# Altium footprint library MergenElektronik_Sensors_AltimeterSensors.PcbLib: 1 footprints
Each footprint in its own frame and in the unit in brackets; x right, y up, seen from the top. Pads: shape width x height; smd on the part's side, far side on the other; paste and mask are expansions set on the pad; w line width, h text height; cw(c..) or ccw(c..) is an arc to the next point about the centre after c.
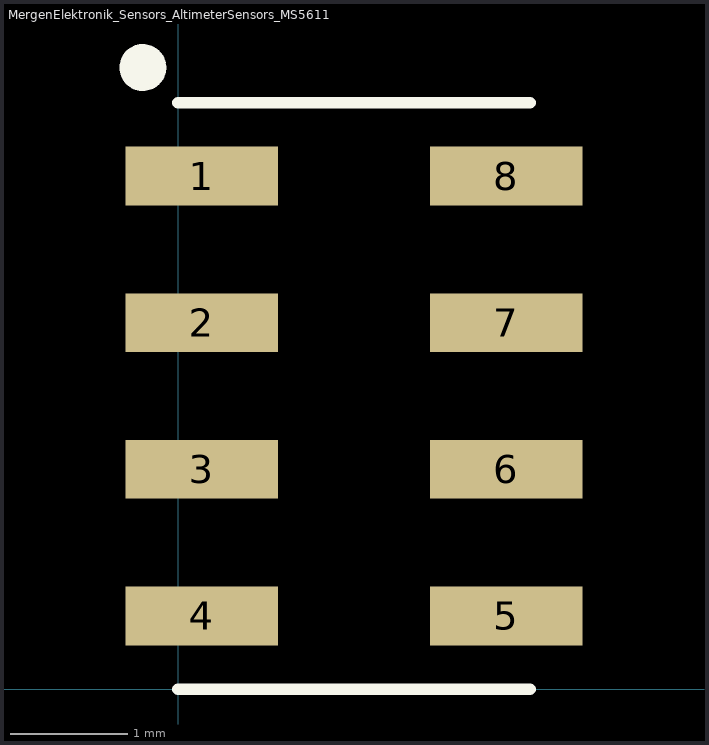
[diagram p0: the footprint, top view; thin cyan lines are the x and y axes]

## MergenElektronik_Sensors_AltimeterSensors_MS561101BA03-50 [mm] "MS561101BA03-50"
pads (8):
  rect 1.3x0.5 smd: 1(0.2,4.375) 2(0.2,3.125) 3(0.2,1.875) 4(0.2,0.625) 5(2.8,0.625) 6(2.8,1.875) 7(2.8,3.125) 8(2.8,4.375)
Top Overlay:
  circle w0.2: c-0.3,5.3 r0.1
  lines w0.1: 0,0 3,0 ; 0,5 3,5
3D body "MS5611-01BA03.stp": height 1, standoff -0.02, extent 0,0 3,5